# Altium schematic symbol library TH_PAD.SchLib: 1 symbol
Pins are listed as number, name and electrical type; pins without a type are passive.

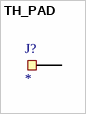
[diagram p0: symbol TH_PAD]

## TH_PAD
designator J?
footprint TH_PAD
pins: 1